# Altium schematic symbol library 1526LN2 OSM.Schlib: 1 symbol
Pins are listed as number, name and electrical type; pins without a type are passive.

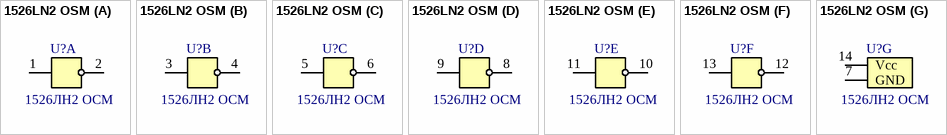
[diagram p0: symbol 1526LN2 OSM]

## 1526LN2 OSM
designator U?, comment 1526ЛН2 ОСМ
Назначение: HEX-инвертер; Наименование: 1526ЛН2
footprint 14PIN FLATPACK
part A pins: 1 IN, 2 OUT
part B pins: 3 IN, 4 OUT
part C pins: 5 IN, 6 OUT
part D pins: 8 OUT, 9 IN
part E pins: 10 OUT, 11 IN
part F pins: 12 OUT, 13 IN
part G pins: 7 GND, 14 Vcc